# Altium footprint library BDX53C.PcbLib: 1 footprints
Each footprint in its own frame and in the unit in brackets; x right, y up, seen from the top. Pads: shape width x height; smd on the part's side, far side on the other; paste and mask are expansions set on the pad; w line width, h text height; cw(c..) or ccw(c..) is an arc to the next point about the centre after c.
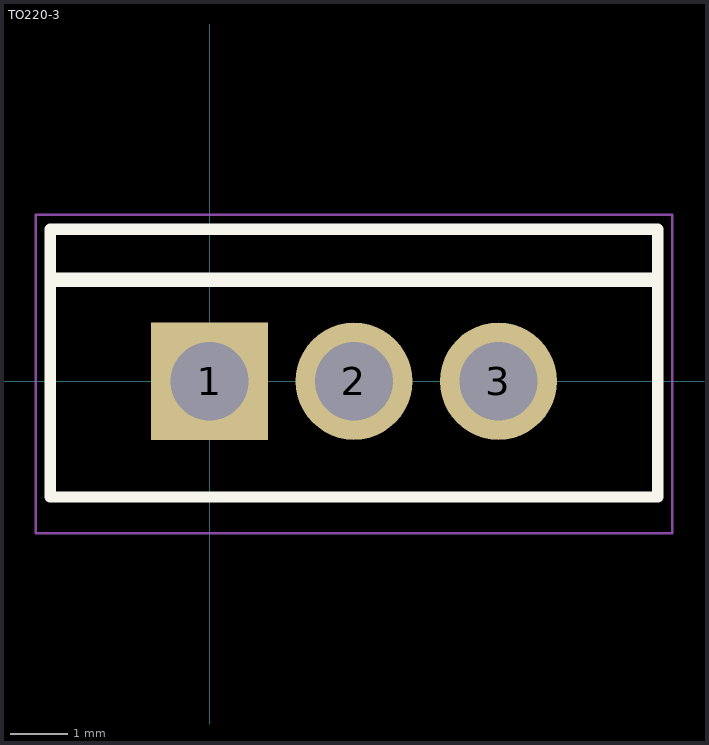
[diagram p0: the footprint, top view; thin cyan lines are the x and y axes]

## TO220-3 [mm]
pads (3):
  rect 2.055x2.055 hole 1.37: 1(0,0)
  round 2.055 hole 1.37: 2(2.535,0) 3(5.07,0)
Top Overlay:
  lines w0.2: -2.799,2.667 7.87,2.667 7.87,-2.032 -2.793,-2.032 -2.799,2.667
  lines w0.254: -2.667,1.778 7.747,1.778
Mechanical 15:
  lines w0.05: -3.05,-2.667 8.12,-2.667 8.12,2.921 -3.05,2.921 -3.05,-2.667
3D body "TO-220-3.step": height 18.8, standoff -9.98, extent -2.41,-2.214 7.49,2.286